# Altium footprint library EISI.PcbLib: 695 footprints (part 2 of 44)
Each footprint in its own frame and in the unit in brackets; x right, y up, seen from the top. Pads: shape width x height; smd on the part's side, far side on the other; paste and mask are expansions set on the pad; w line width, h text height; cw(c..) or ccw(c..) is an arc to the next point about the centre after c.
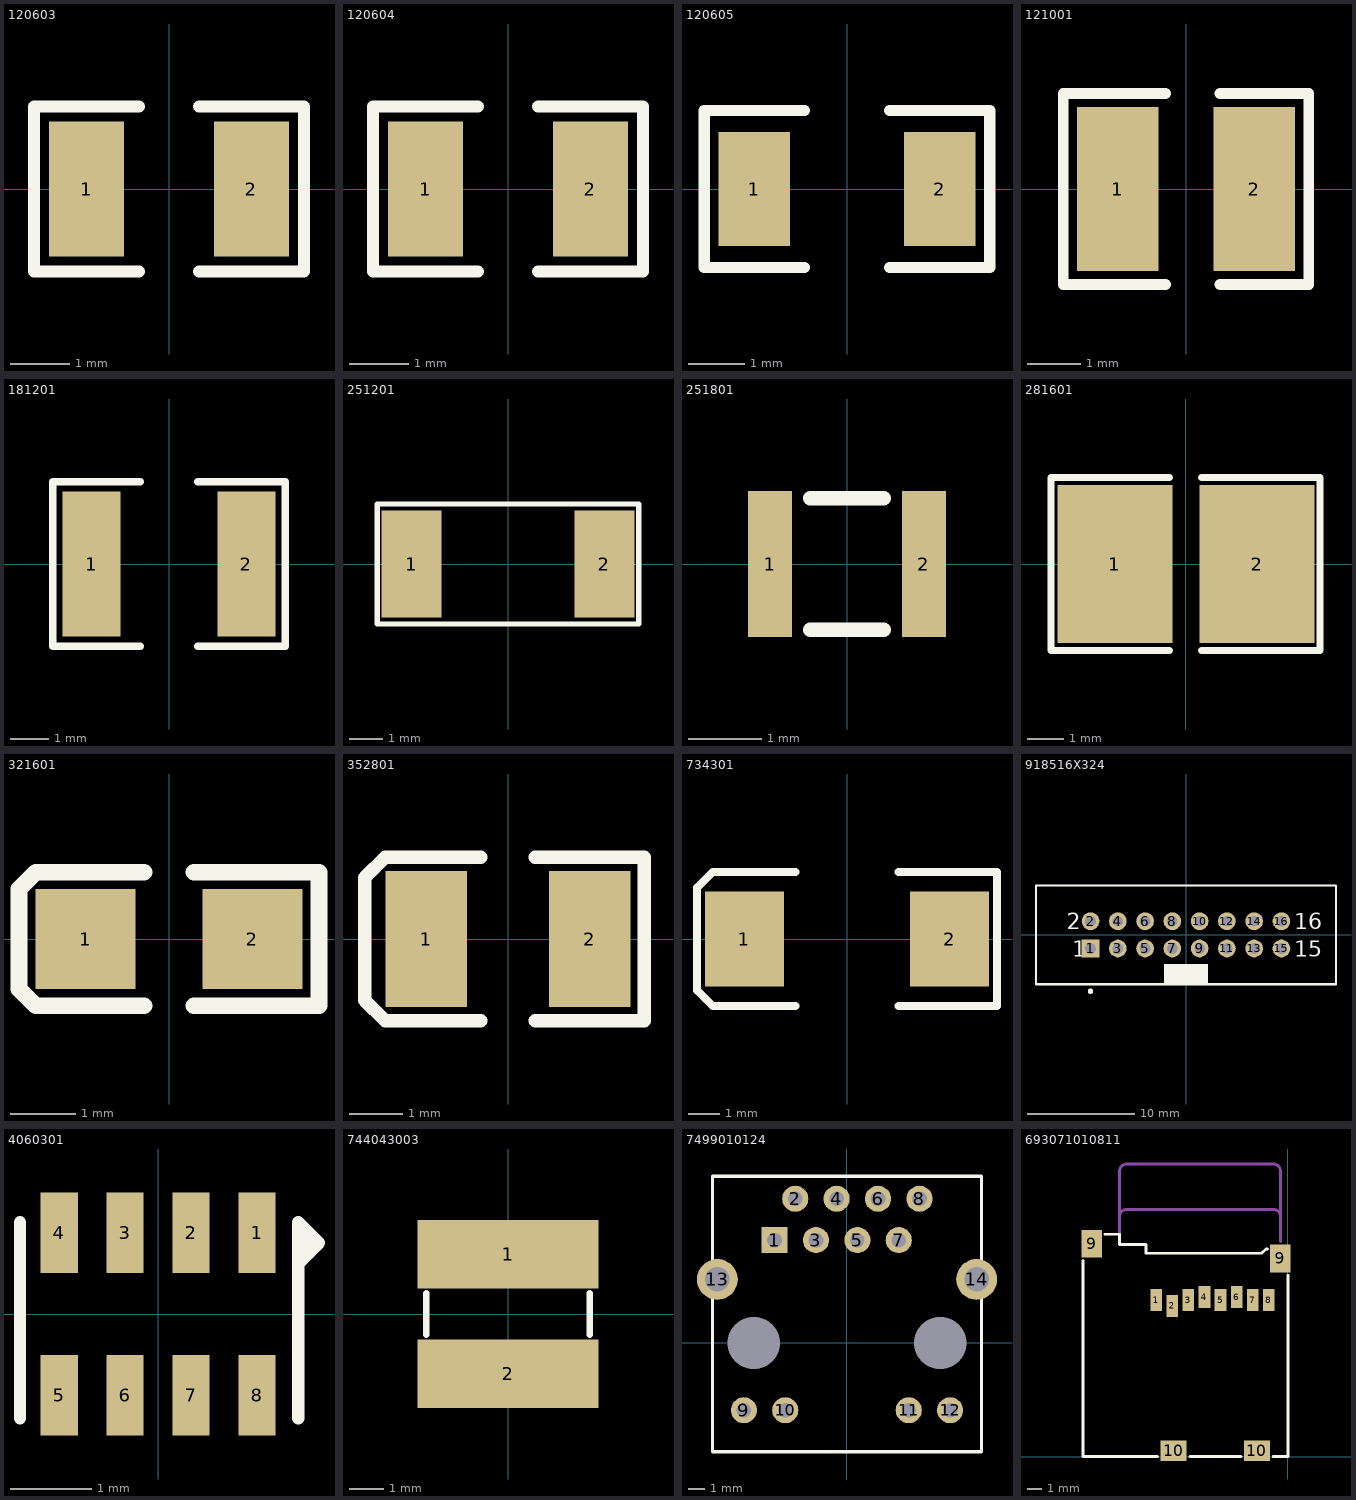
[diagram p1: the footprints below, top view; thin cyan lines are the x and y axes]

## 120603 [mil]
pads (2):
  rect 50x90 smd: 1(-55,0) 2(55,0)
TopOverlay:
  lines w7.87: -20,-55 -90,-55 -90,-45 -90,55 -20,55 ; 20,-55 90,-55 90,55 20,55

## 120604 [mil]
pads (2):
  rect 50x90 smd: 1(-55,0) 2(55,0)
TopOverlay:
  lines w7.87: -20,-55 -90,-55 -90,-45 -90,55 -20,55 ; 20,-55 90,-55 90,55 20,55

## 120605 [mil]
pads (2):
  rect 50x80 smd: 1(-65,0) 2(65,0)
TopOverlay:
  lines w7.87: -30,-55 -100,-55 -100,-45 -100,55 -30,55 ; 30,-55 100,-55 100,55 30,55

## 121001 [mil]
pads (2):
  rect 60x120 smd: 1(-50,0) 2(50,0)
TopOverlay:
  lines w7.87: -15,-70 -90,-70 -90,70 -15,70 ; 25,-70 90,-70 90,70 25,70

## 181201 [mil]
pads (2):
  rect 60x150 smd: 1(-80,0) 2(80,0)
TopOverlay:
  lines w7.87: -30,-85 -120,-85 -120,85 -30,85 ; 30,-85 120,-85 120,85 30,85

## 251201 [mil]
pads (2):
  rect 70x125 smd: 1(-112.5,0) 2(112.5,0)
TopOverlay:
  lines w6: -152.5,-70 152.5,-70 152.5,70 -152.5,70 -152.5,-70

## 251801 [mm] "2518"
height 1.8
pads (2):
  rect 0.6x2 smd: 1(-1.05,0) 2(1.05,0)
TopOverlay:
  lines w0.2: -0.5,-0.9 0.5,-0.9 ; -0.5,0.9 0.5,0.9

## 281601 [mil]
pads (2):
  rect 126x173 smd: 1(-77.95,0) 2(77.95,0)
TopOverlay:
  lines w7.87: -17.95,-95 -147.95,-95 -147.95,95 -17.95,95 ; 17.05,-95 147.05,-95 147.05,95 17.05,95

## 321601 [mil]
pads (2):
  rect 60x60 smd: 1(-50,0) 2(50,0)
TopOverlay:
  lines w10: -15,-40 -80,-40 -90,-30 -90,30 -80,40 -15,40 ; 15,-40 90,-40 90,40 15,40

## 352801 [mil]
pads (2):
  rect 60x100 smd: 1(-60,0) 2(60,0)
TopOverlay:
  lines w10: -20,-60 -90,-60 -105,-45 -105,45 -90,60 -20,60 ; 20,-60 100,-60 100,60 20,60

## 734301 [mil]
pads (2):
  rect 100x120 smd: 1(-130,0) 2(130,0)
TopOverlay:
  lines w10: -65,-85 -170,-85 -190,-65 -190,65 -170,85 -65,85 ; 65,-85 190,-85 190,85 65,85

## 918516X324 [mm] "Connector; IDC, Low Profile Male Header, Thru-Hole; 16 Position; Vertical; Pitch 2.54 mm; Body 27.94 x 9.2 x 9.45 mm (LxWxH)"
height 9.45
pads (16):
  rect 1.65x1.65 hole 1: 1(-8.89,-1.27)
  round 1.65 hole 1: 2(-8.89,1.27) 3(-6.35,-1.27) 4(-6.35,1.27) 5(-3.81,-1.27) 6(-3.81,1.27) 7(-1.27,-1.27) 8(-1.27,1.27) 9(1.27,-1.27) 10(1.27,1.27) 11(3.81,-1.27) 12(3.81,1.27) 13(6.35,-1.27) 14(6.35,1.27) 15(8.89,-1.27) 16(8.89,1.27)
TopOverlay:
  circle w0.25: c-8.89,-5.25 r0.125
  rectangle: -2.05,-4.6 2.05,-2.7
  lines w0.2: -13.97,-4.6 13.97,-4.6 13.97,4.6 -13.97,4.6 -13.97,-4.6
  text "15" at 10.09,-2.02 h1.5
  text "16" at 10.09,0.52 h1.5
  text "1" at -10.59,-2.02 h1.5
  text "2" at -11.09,0.52 h1.5

## 4060301 [mil]
pads (8):
  rect 18x39 smd: 1(48,39.5) 2(16,39.5) 3(-16,39.5) 4(-48,39.5) 5(-48,-39.5) 6(-16,-39.5) 7(16,-39.5) 8(48,-39.5)
TopOverlay:
  lines w6: -67,-50.5 -67,44.5 ; 68,-50.5 68,44.5 78,34.5 68,24.5 ; 73,29.5 73,39.5

## 744043003 [mm] "Inductor Würth Electronik 4.8 x 4.8mm"
height 2.8
pads (2):
  rect 5.3x2 smd: 1(0,1.75) 2(0,-1.75)
TopOverlay:
  lines w0.2: -2.4,-0.6 -2.4,0.6 ; 2.4,-0.6 2.4,0.6

## 7499010124 [mm] "Wuerth Connecteur Ethernet vertical"
height 17.02
pads (16):
  rect 1.6x1.6 hole 0.9: 1(-4.445,6.3)
  round 1.6 hole 0.9: 2(-3.175,8.84) 3(-1.905,6.3) 4(-0.635,8.84) 5(0.635,6.3) 6(1.905,8.84) 7(3.175,6.3) 8(4.445,8.84)
  round 1.6 hole 0.9 unplated: 9(-6.325,-4.13) 10(-3.785,-4.13) 11(3.785,-4.13) 12(6.325,-4.13)
  round 2.5 hole 1.5 unplated: 13(-7.95,3.89) 14(7.95,3.89)
  round 1.6 hole 3.2 unplated: ""(-5.715,0) ""(5.715,0)
TopOverlay:
  lines w0.2: -8.25,-6.68 -8.25,10.22 8.25,10.22 8.25,-6.68 -8.25,-6.68

## 693071010811 [mm] "Micro SD Card connector Wurth"
height 1.83
pads (12):
  rect 0.8x1.5 smd: 1(-9,10.7) 2(-7.9,10.3) 3(-6.8,10.7) 4(-5.7,10.9) 5(-4.6,10.7) 6(-3.5,10.9) 7(-2.4,10.7) 8(-1.3,10.7)
  rect 1.4x1.9 smd: 9(-13.41,14.55) 9(-0.51,13.55)
  rect 1.8x1.4 smd: 10(-7.81,0.4) 10(-2.11,0.4)
TopOverlay:
  lines w0.2: -14,13.4 -14,0 -12.3,0 -8.9,0 ; -12.5,15.2 -11.5,15.2 -11.5,14.5 -9.7,14.5 -9.7,13.9 -1.8,13.9 -1.5,14.2 -1.4,14.2 ; -6.7,0 -3.2,0 ; -1,0 0,0 0,12.4
Mechanical3:
  lines w0.2: -11.5,15.2 -11.5,19.5 cw(c-11,19.5) -11,20 -1,20 cw(c-1,19.5) -0.5,19.5 -0.5,14.7 ; -11.5,16.4 cw(c-11,16.4) -11,16.9 -1,16.9 cw(c-1,16.4) -0.5,16.4
  text "uSD" at -8.1,17.7 h1.52
  text "Lock" at -8.7,14.8 h1.52